# Altium footprint library common.PcbLib: 93 footprints (part 1 of 6)
Each footprint in its own frame and in the unit in brackets; x right, y up, seen from the top. Pads: shape width x height; smd on the part's side, far side on the other; paste and mask are expansions set on the pad; w line width, h text height; cw(c..) or ccw(c..) is an arc to the next point about the centre after c.
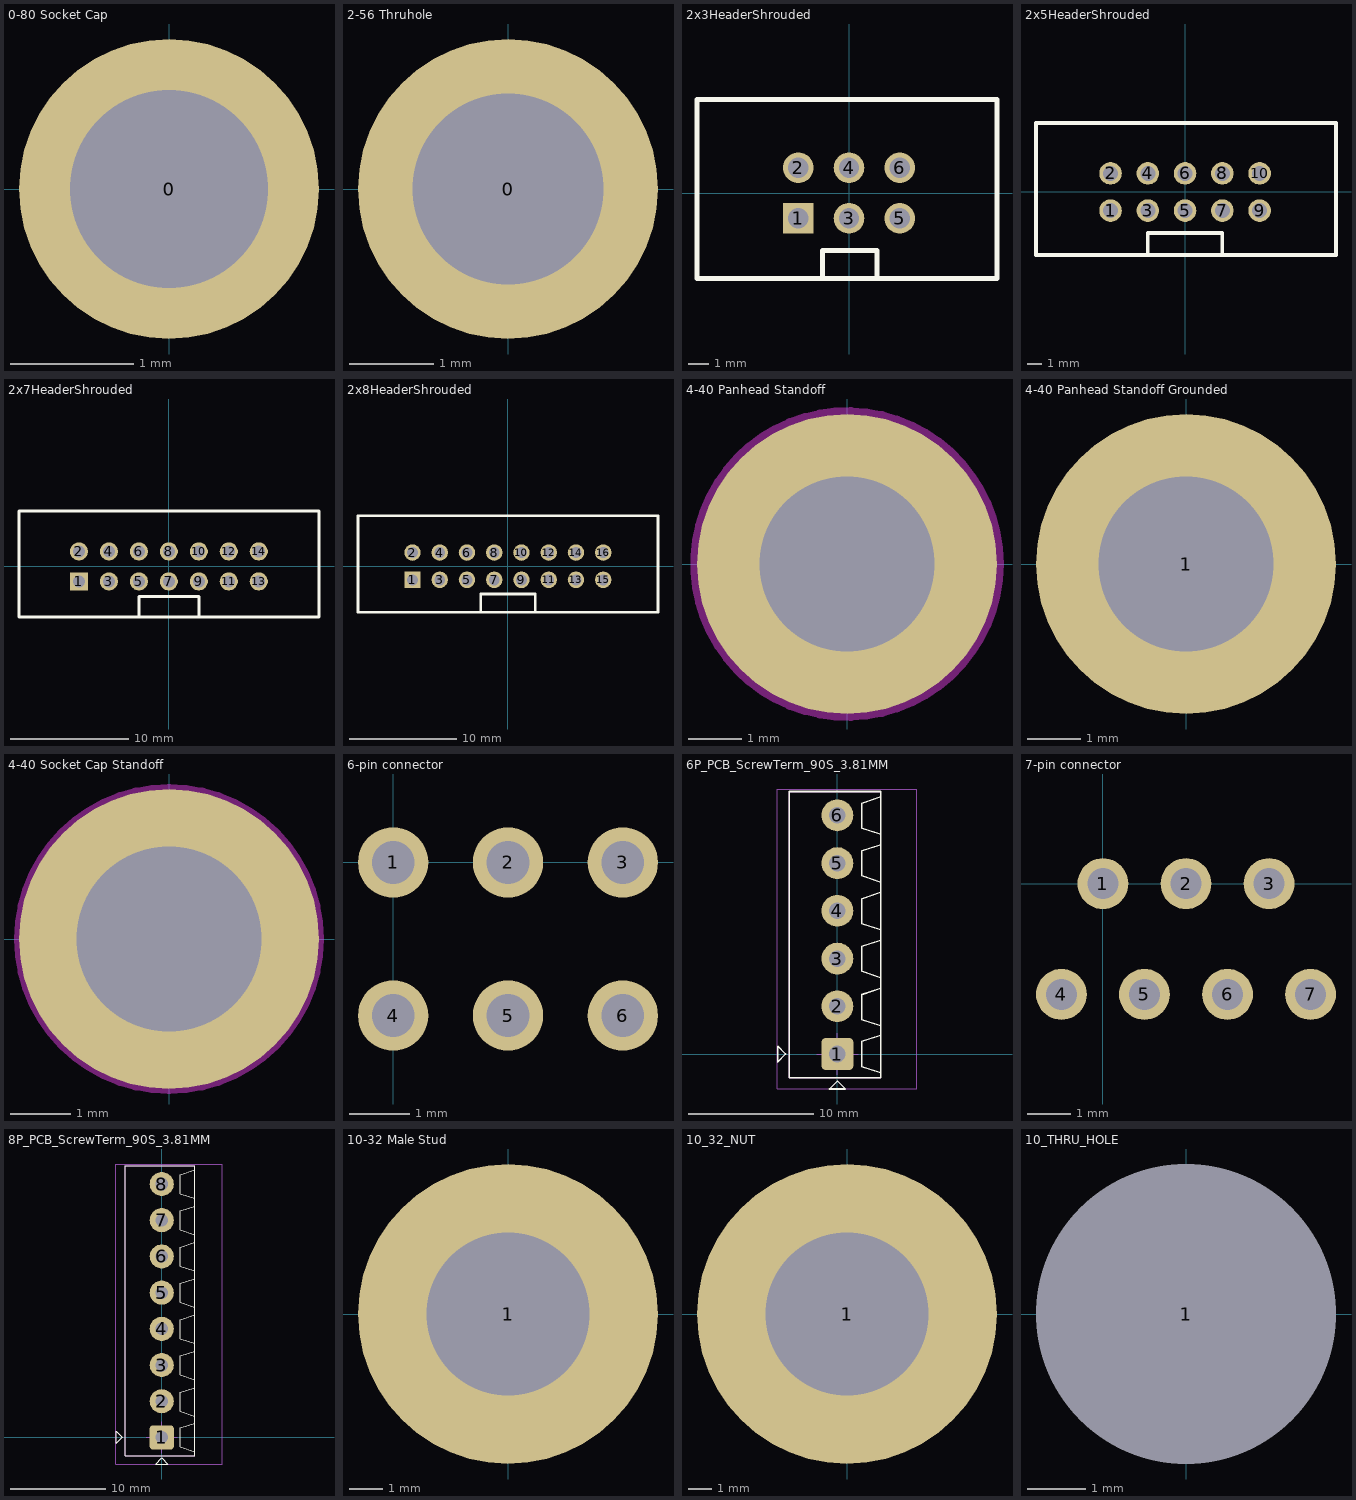
[diagram p0: the footprints below, top view; thin cyan lines are the x and y axes]

## 0-80 Socket Cap [mm] "0-80 Socket Cap"
pads (1):
  round 2.44 hole 1.613: 0(0,0)

## 2-56 Thruhole [mil]
pads (1):
  round 140 hole 89: 0(0,0)

## 2x3HeaderShrouded [mil] "FCI 2x3 Shrouded Male Header 75869-131LF"
height 352.36
pads (6):
  rect 60.5x60.5 hole 40.16: 1(-100,-50)
  round 60.5 hole 40.16: 2(-100,50) 3(0,-50) 4(0,50) 5(100,-50) 6(100,50)
Top Overlay:
  lines w10: -52,-168 -52,-113 55,-113 55,-168 ; -300,-169 292,-169 292,185 -300,185 -300,-169
3D body: height 367.41, standoff -119.59, extent -292,-175.48 291.86,189.48

## 2x5HeaderShrouded [mil] "TE 2x5 Shrouded Male Header 1-1634688-0"
height 352.36
pads (10):
  round 60.5 hole 40.16: 1(-200,-50) 2(-200,50) 3(-100,-50) 4(-100,50) 5(0,-50) 6(0,50) 7(100,-50) 8(100,50) 9(200,-50) 10(200,50)
Top Overlay:
  lines w10: -100,-169 -100,-110 100,-110 100,-169 ; -400,-169 405,-169 405,185 -400,185 -400,-169
3D body: height 354.81, standoff -123.54, extent -400.59,-169.33 400.59,185

## 2x7HeaderShrouded [mil] "TE 2x7 Shrouded Male Header 1-1634688-4"
height 352.36
pads (14):
  rect 60.5x60.5 hole 40.16: 1(-300,-50)
  round 60.5 hole 40.16: 2(-300,50) 3(-200,-50) 4(-200,50) 5(-100,-50) 6(-100,50) 7(0,-50) 8(0,50) 9(100,-50) 10(100,50) 11(200,-50) 12(200,50) 13(300,-50) 14(300,50)
Top Overlay:
  lines w10: -100,-169 -100,-100 100,-100 100,-169 ; -500,-169 -500,185 501,185 501,-169 -500,-169
3D body: height 354.81, standoff -123.54, extent -500.59,-169.33 500.59,185

## 2x8HeaderShrouded [mil] "TE 2x8 Shrouded Male Header 1-1634688-6"
height 352.36
pads (16):
  rect 60.5x60.5 hole 40.16: 1(-350,-50)
  round 60.5 hole 40.16: 2(-350,50) 3(-250,-50) 4(-250,50) 5(-150,-50) 6(-150,50) 7(-50,-50) 8(-50,50) 9(50,-50) 10(50,50) 11(150,-50) 12(150,50) 13(250,-50) 14(250,50) 15(350,-50) 16(350,50)
Top Overlay:
  lines w10: -99.99,-169 -99.99,-101.92 100.01,-101.92 100.01,-168 ; -550,-169 551,-169 551,185 -550,185 -550,-169
3D body: height 354.81, standoff -123.54, extent -550.59,-171.26 550.6,183.08

## 4-40 Panhead Standoff [mil]
pads (1):
  round 220 hole 128.5: ""(0,0)
Keep-Out Layer:
  circle w10: c0,0 r110

## 4-40 Panhead Standoff Grounded [mil] "4-40 Panhead Standoff Grounded"
pads (1):
  round 220 hole 128.5: 1(0,0)

## 4-40 Socket Cap Standoff [mil] "4-40 Socket Cap Standoff"
height 112
pads (1):
  round 195 hole 120 unplated: ""(0,0)
Keep-Out Layer:
  circle w11.42: c0,0 r95.02

## 6-pin connector [mil]
pads (6):
  round 46 hole 28: 1(0,0) 2(75,0) 3(150,0) 4(0,-100) 5(75,-100) 6(150,-100)

## 6P_PCB_ScrewTerm_90S_3.81MM [mil] "TERM BLOCK 6POS SIDE ENT STACKABLE 3.81MM"
height 334.65
pads (6):
  rrect25% 100x100 hole 52: 1(0,0)
  round 100 hole 52: 2(0,150) 3(0,300) 4(0,450) 5(0,600) 6(0,750)
Top Overlay:
  lines w5: 135.83,-59.06 76.78,-39.37 76.78,39.37 135.83,59.06 ; 135.83,88.58 76.78,108.27 76.78,187.01 135.83,206.69 ; 135.83,240 76.78,259.69 76.78,338.43 135.83,358.11 ; 135.83,390 76.78,409.69 76.78,488.43 135.83,508.11 ; 135.83,540 76.78,559.68 76.78,638.43 135.83,658.11 ; 135.83,690 76.78,709.68 76.78,788.43 135.83,808.11 ; -188,-25 -188,25 -163,0 -188,-25 ; -151.57,-75 135.83,-75 135.83,825 -151.57,825 -151.57,-75 ; -25,-110 0,-85 25,-110 -25,-110
Mechanical 13:
  lines w3: -151.57,-75 -151.57,825 135.83,825 135.83,-75 -151.57,-75
Mechanical 15:
  lines w3: -65,0 65,0 ; 0,-65 0,65 ; -190,-110 250,-110 250,832.88 -190,832.88 -190,-110
3D body: height 335.25, standoff -137.2, extent -151.56,-75 135.84,825

## 7-pin connector [mil]
pads (7):
  round 46 hole 28: 1(0,0) 2(75,0) 3(150,0) 4(-37.5,-100) 5(37.5,-100) 6(112.5,-100) 7(187.5,-100)

## 8P_PCB_ScrewTerm_90S_3.81MM [mil] "TERM BLOCK 8POS SIDE ENT STACKABLE 3.81MM"
height 334.65
pads (8):
  rrect25% 100x100 hole 52: 1(0,0)
  round 100 hole 52: 2(0,150) 3(0,300) 4(0,450) 5(0,600) 6(0,750) 7(0,900) 8(0,1050)
Top Overlay:
  lines w5: 135.83,-59.06 76.78,-39.37 76.78,39.37 135.83,59.06 ; 135.83,88.58 76.78,108.27 76.78,187.01 135.83,206.69 ; 135.83,240 76.78,259.69 76.78,338.43 135.83,358.11 ; 135.83,390 76.78,409.69 76.78,488.43 135.83,508.11 ; 135.83,540 76.78,559.68 76.78,638.43 135.83,658.11 ; 135.83,690 76.78,709.68 76.78,788.43 135.83,808.11 ; 135.83,840 76.78,859.68 76.78,938.43 135.83,958.11 ; 135.83,990 76.78,1009.68 76.78,1088.43 135.83,1108.11 ; -188,-25 -188,25 -163,0 -188,-25 ; -151.57,-75 135.83,-75 135.83,1125 -151.57,1125 -151.57,-75 ; -25,-110 0,-85 25,-110 -25,-110
Mechanical 13:
  lines w3: -151.57,-75 -151.57,1125 135.83,1125 135.83,-75 -151.57,-75
Mechanical 15:
  lines w3: -65,0 65,0 ; 0,-65 0,65 ; -190,-110 250,-110 250,1132.88 -190,1132.88 -190,-110
3D body: height 335.25, standoff -137.2, extent -151.56,-75 135.84,1125

## 10-32 Male Stud [mil] "10-32 Male Stud"
pads (1):
  round 350 hole 190: 1(0,0)
3D body: height 20.6, standoff -499.52, extent -125,-125.01 125,125.24

## 10_32_NUT [mil] "10-32 Pressfit nut McMaster: 95117A466 PEM:KF2-032-ET"
pads (1):
  round 500 hole 272: 1(0,0)
3D body: height 127.56, standoff -59.44, extent -187.49,-187.5 187.51,187.5

## 10_THRU_HOLE [mil] "#10 Clearance Hole"
pads (1):
  round 150 hole 201 unplated: 1(0,0)